# Altium footprint library connectors.PcbLib: 143 footprints (part 8 of 9)
Each footprint in its own frame and in the unit in brackets; x right, y up, seen from the top. Pads: shape width x height; smd on the part's side, far side on the other; paste and mask are expansions set on the pad; w line width, h text height; cw(c..) or ccw(c..) is an arc to the next point about the centre after c.
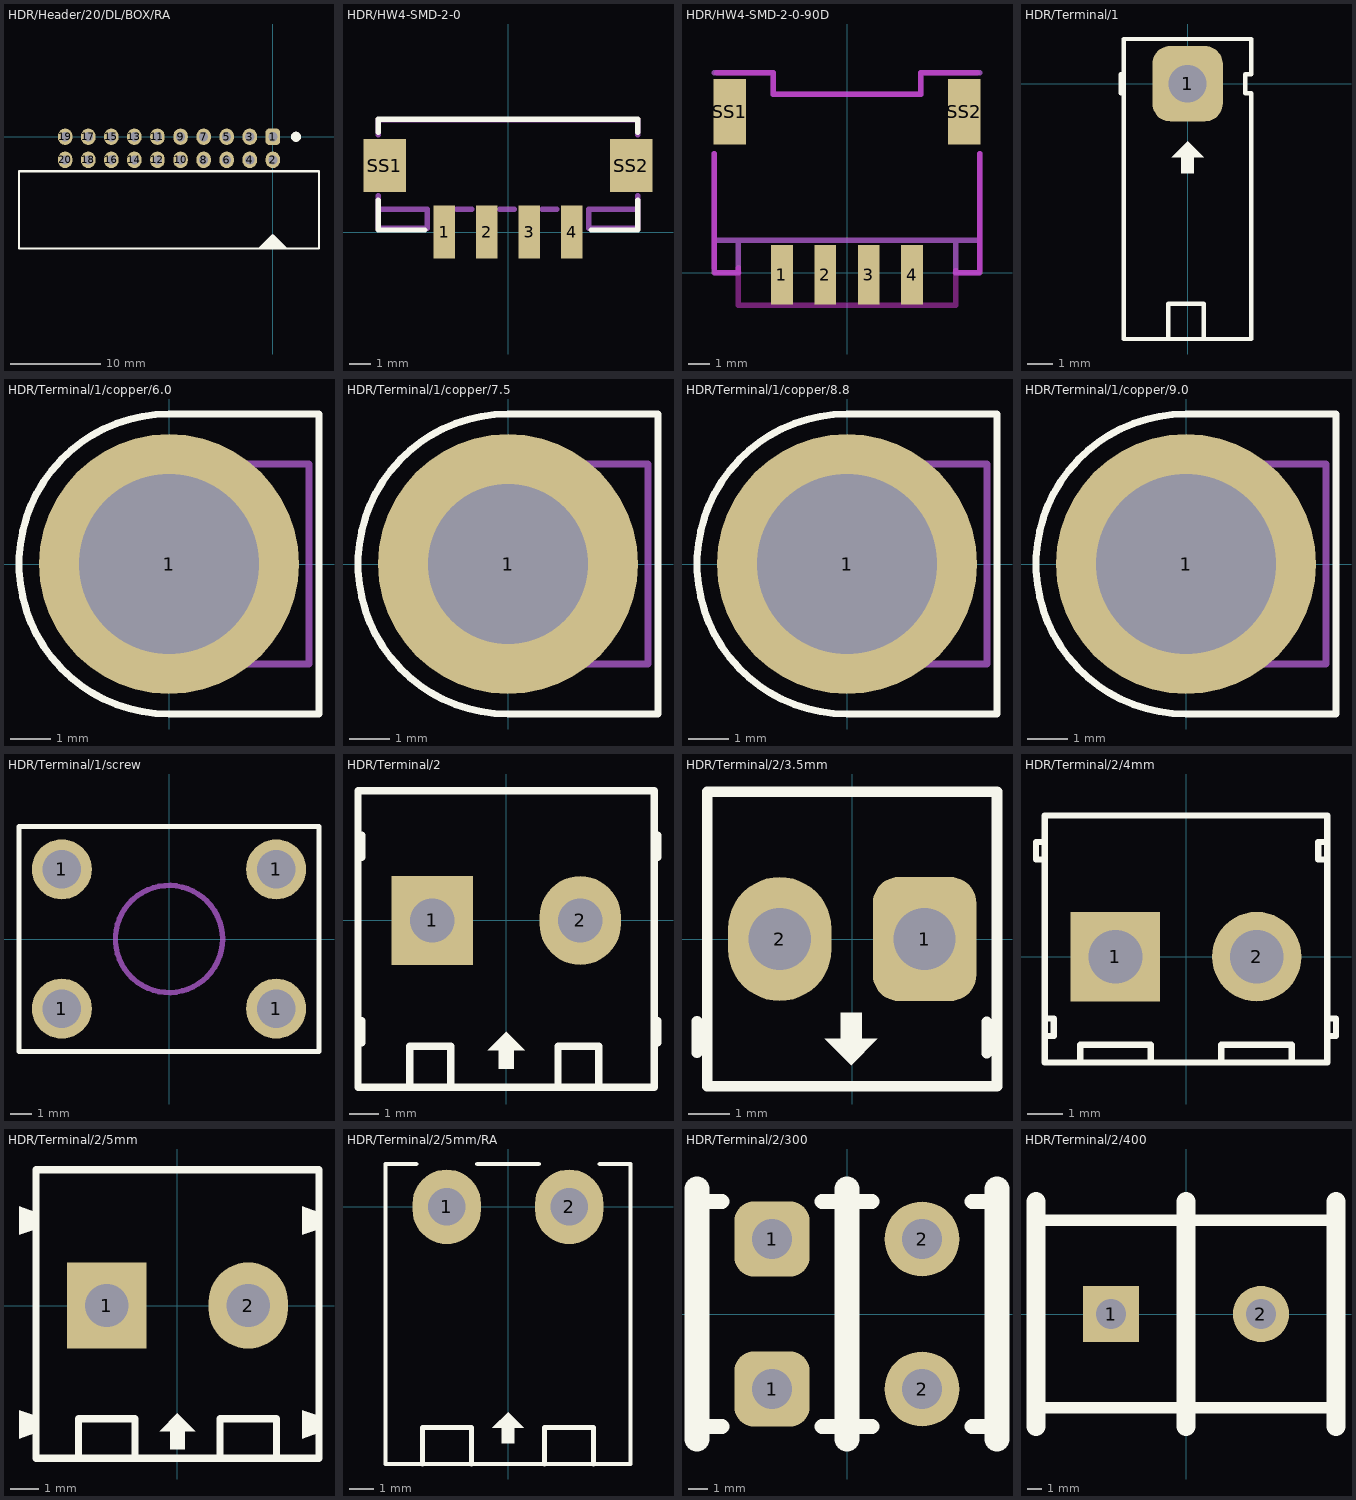
[diagram p7: the footprints below, top view; thin cyan lines are the x and y axes]

## HDR/Header/20/DL/BOX/RA [mm] "20 pins Male Box Header, IDC Socket"
pads (20):
  rrect50% 1.6x1.8 hole 1: 1(0,0)
  oval 1.6x1.8 hole 1: 2(0,-2.54) 3(-2.54,0) 4(-2.54,-2.54) 5(-5.08,0) 6(-5.08,-2.54) 7(-7.62,0) 8(-7.62,-2.54) 9(-10.16,0) 10(-10.16,-2.54) 11(-12.7,0) 12(-12.7,-2.54) 13(-15.24,0) 14(-15.24,-2.54) 15(-17.78,0) 16(-17.78,-2.54) 17(-20.32,0) 18(-20.32,-2.54) 19(-22.86,0) 20(-22.86,-2.54)
Top Overlay:
  circle w0.6: c2.54,0 r0.254
  region: -1.494,-12.356 -1.534,-12.258 -1.494,-12.161 -0.097,-10.764 0,-10.724 0.097,-10.764 1.494,-12.161 1.534,-12.258 1.494,-12.356 1.397,-12.396 -1.397,-12.396
  lines w0.254: -27.94,-12.306 5.08,-12.306 5.08,-3.81 -27.94,-3.81 -27.94,-12.306
3D body "Samtec-TST-110-01-L-D-RA.step": height 9.52, standoff -2.5, extent -27.94,-12.306 5.08,0.33

## HDR/HW4-SMD-2-0 [mm]
pads (6):
  rect 1x2.5 smd: 1(-3,0) 2(-1,0) 3(1,0) 4(3,0)
  rect 2x2.5 smd: SS1(-5.8,3.123) SS2(5.8,3.123)
Top Overlay:
  lines w0.254: -6.1,1.5 -6.1,0.1 -3.9,0.1 ; -6.1,4.7 -6.1,5.3 6.1,5.3 6.1,4.7 ; 3.9,0.1 6.1,0.1 6.1,1.5
Mechanical 7:
  lines w0.254: -6.1,1.719 -6.1,1.073 ; -6.1,4.573 -6.1,5.273 6.1,5.273 6.1,4.573 ; -2.4,1.073 -1.7,1.073 ; -0.4,1.073 0.3,1.073 ; 1.6,1.073 2.3,1.073 ; 6.1,1.719 6.1,1.073 ; -6.1,1.073 -3.8,1.073 -3.8,0.173 -6.1,0.173 -6.1,1.073 ; 6.1,1.073 3.8,1.073 3.8,0.173 6.1,0.173 6.1,1.073
3D body "PHS-4AW.STEP": height 8, standoff 0, extent -6,-1.125 6,5.25

## HDR/HW4-SMD-2-0-90D [mm]
pads (6):
  rect 1.01x2.74 smd: 1(-3,-0.1) 2(-1,-0.1) 3(1,-0.1) 4(3,-0.1)
  rect 1.5x3 smd: SS1(-5.4,7.4) SS2(5.4,7.4)
Top Layer keep-out:
  lines w0.254: -6.1,0.2 -6.1,5.465 ; -6.053,0 -4.975,0 ; -6,9.2 -3.4,9.2 -3.4,8.2 3.4,8.2 3.4,9.2 6,9.2 ; -5,0.2 -5,-1.5 5,-1.5 5,0.1 ; 4.975,0 6.053,0 ; 6.1,0.1 6.1,5.465
Mechanical 7:
  lines w0.254: -6.1,5.465 -6.1,1.5 ; -6.1,9.2 -3.4,9.2 -3.4,8.2 3.4,8.2 3.4,9.2 6.1,9.2 ; 6.1,5.465 6.1,1.5 ; -6.1,1.5 -6.1,0 -5,0 -5,1.5 ; -6.1,1.5 -5,1.5 ; -5,1.5 5,1.5 ; 5,1.5 5,0 6.1,0 6.1,1.5 ; 5,1.5 6.1,1.5

## HDR/Terminal/1 [mm] "Header 1, 1 pin, hight 300mil, Pin to Pin 200, Colour Green"
height 7.62
pads (1):
  rrect50% 2.8x3 hole 1.5: 1(0,0)
Top Overlay:
  region: 0,-2.286 -0.635,-2.921 -0.254,-2.921 -0.254,-3.556 0.254,-3.556 0.254,-2.921 0.635,-2.921
  lines w0.178: -2.667,-0.381 -2.667,0.381 ; -0.762,-10.16 -0.762,-8.763 0.635,-8.763 0.635,-10.16 ; -2.54,-10.16 -2.54,1.778 2.54,1.778 2.54,0.381 2.286,0.381 2.286,-0.381 2.54,-0.381 2.54,-10.16 -2.54,-10.16
3D body "User Library-BigHeader 5EHDR_1P.step": height 8.49, standoff -3.98, extent -2.5,-10.222 2.5,1.778

## HDR/Terminal/1/copper/6.0 [mm] "Header 1, 1 pin,"
height 7.62
pads (1):
  round 6.5 hole 4.5: 1(0,0)
Top Overlay:
  lines w0.178: 0,-3.75 cw(c0,0) 0,3.75 3.75,3.75 3.75,-3.75 0,-3.75
Mechanical 1:
  lines w0.178: 0.49,-2.451 cw(c0,0) 0.49,2.451 ; 0.5,-2.5 3.5,-2.5 3.5,2.5 0.5,2.5
3D body "terminal2.STEP": height 6, standoff -2, extent -2.5,-2.5 3.5,2.5

## HDR/Terminal/1/copper/7.5 [mm] "Header 1, 1 pin,"
height 7.62
pads (1):
  round 6.5 hole 4: 1(0,0)
Top Overlay:
  lines w0.178: 0,-3.75 cw(c0,0) 0,3.75 3.75,3.75 3.75,-3.75 0,-3.75
Mechanical 1:
  lines w0.178: 0.49,-2.451 cw(c0,0) 0.49,2.451 ; 0.5,-2.5 3.5,-2.5 3.5,2.5 0.5,2.5
3D body "terminal4.STEP": height 7.5, standoff -2, extent -2.5,-2.5 6.5,2.5

## HDR/Terminal/1/copper/8.8 [mm] "Header 1, 1 pin,"
height 7.62
pads (1):
  round 6.5 hole 4.5: 1(0,0)
Top Overlay:
  lines w0.178: 0,-3.75 cw(c0,0) 0,3.75 3.75,3.75 3.75,-3.75 0,-3.75
Mechanical 1:
  lines w0.178: 0.49,-2.451 cw(c0,0) 0.49,2.451 ; 0.5,-2.5 3.5,-2.5 3.5,2.5 0.5,2.5
3D body "terminal3.STEP": height 8.8, standoff -2, extent -2.5,-2.5 3.5,2.5

## HDR/Terminal/1/copper/9.0 [mm] "Header 1, 1 pin,"
height 7.62
pads (1):
  round 6.5 hole 4.5: 1(0,0)
Top Overlay:
  lines w0.178: 0,-3.75 cw(c0,0) 0,3.75 3.75,3.75 3.75,-3.75 0,-3.75
Mechanical 1:
  lines w0.178: 0.49,-2.451 cw(c0,0) 0.49,2.451 ; 0.5,-2.5 3.5,-2.5 3.5,2.5 0.5,2.5
3D body "terminal.STEP": height 9, standoff -2, extent -2.5,-2.5 3.5,2.5

## HDR/Terminal/1/screw [mm]
height 7.62
pads (4):
  round 2.8 hole 1.8: 1(-5,-3.25) 1(-5,3.25) 1(5,-3.25) 1(5,3.25)
Top Overlay:
  lines w0.254: -7,-5.25 -7,5.25 7,5.25 7,-5.25 -7,-5.25
Mechanical 1:
  circle w0.254: c0,0 r2.5
3D body: height 1.5, standoff 0, extent -7,-5.25 -6.25,5.25
3D body: height 4, standoff 0, extent -5.5,-5.25 -4.75,5.25
3D body: height 4, standoff 0, extent -3.75,-5.25 -3,5.25
3D body: height 4, standoff 0, extent -5.375,-5.25 -4.625,5.25
3D body: height 4, standoff 0, extent 4.625,-5.25 5.375,5.25
3D body: height 4.75, standoff 4, extent -5.375,-5.25 0,5.25
3D body: height 4.75, standoff 4, extent 0,-5.25 5.375,5.25

## HDR/Terminal/2 [mil] "Header 2, 2 pin, hight 400mil, Pin to Pin 200mil, Colour Green"
height 300
pads (2):
  rect 110x120 hole 60: 1(-100,0)
  oval 110x120 hole 60: 2(100,0)
Top Overlay:
  region: 0,-150 -25,-175 -10,-175 -10,-200 10,-200 10,-175 25,-175
  lines w10: -195,-165 -195,-135 ; -195,85 -195,115 ; -130,-225 -130,-170 -75,-170 -75,-225 ; 70,-225 70,-170 125,-170 125,-225 ; 205,-165 205,-135 ; 205,85 205,115 ; -200,-225 -200,175 200,175 200,-225 -200,-225
3D body "13989.stp": height 559.05, standoff -137.8, extent -229.17,-217.91 200,167.91

## HDR/Terminal/2/3.5mm [mm]
pads (2):
  rrect50% 2.5x3 hole 1.5: 1(1.75,0)
  oval 2.5x3 hole 1.5: 2(-1.75,0)
Top Overlay:
  region: -0.028,-3.048 0.607,-2.413 0.226,-2.413 0.226,-1.778 -0.282,-1.778 -0.282,-2.413 -0.663,-2.413
  lines w0.254: -3.75,-2.75 -3.75,-1.988 ; 3.25,-2.762 3.25,-2 ; -3.5,-3.556 3.5,-3.556 3.5,3.556 -3.5,3.556 -3.5,-3.556
3D body "User Library-Terminal Block 2 way 3.5mm.step": height 8.51, standoff -3.5, extent -3.556,-3.645 3.556,3.645

## HDR/Terminal/2/4mm [mil]
pads (2):
  rect 100x100 hole 60: 1(-78.8,0)
  round 100 hole 60: 2(78.8,0)
Top Overlay:
  lines w7.01: -157.6,-118.11 -157.6,157.48 157.6,157.48 157.6,-118.11 -157.54,-118.11 ; -157.6,-78.8 -157.6,78.8 ; -157.54,-88.58 -147.7,-88.58 -147.7,-68.9 -157.54,-68.9 ; -157.54,108.27 -167.38,108.27 -167.38,127.95 -157.54,127.95 ; -118.17,-118.11 -118.17,-98.43 -39.43,-98.43 -39.43,-118.11 ; 39.31,-118.11 39.31,-98.43 118.05,-98.43 118.05,-118.11 ; 157.42,-88.58 167.26,-88.58 167.26,-68.9 157.42,-68.9 ; 157.42,108.27 147.58,108.27 147.58,127.95 157.42,127.95 ; 157.6,-78.8 157.6,78.8

## HDR/Terminal/2/5mm [mil] "Header 2, 2 pin, hight 400mil, Pin to Pin 200mil, Colour Green"
height 300
pads (2):
  rect 110x120 hole 60: 1(-98.43,0)
  oval 110x120 hole 60: 2(98.43,0)
Top Overlay:
  region: 0,-150 -25,-175 -10,-175 -10,-200 10,-200 10,-175 25,-175
  region: -220.47,98.43 -220.47,137.8 -196.85,129.92 -196.85,106.3
  region: -220.47,-185.04 -220.47,-145.67 -196.85,-153.54 -196.85,-177.17
  region: 173.23,-185.04 173.23,-145.67 196.85,-153.54 196.85,-177.17
  region: 173.23,98.43 173.23,137.8 196.85,129.92 196.85,106.3
  lines w10: -137.8,-212.6 -137.8,-157.48 -59.06,-157.48 -59.06,-212.6 ; 59.06,-212.6 59.06,-157.48 137.8,-157.48 137.8,-212.6 ; -196.85,-212.6 -196.85,188.98 196.85,188.98 196.85,-212.6 -196.85,-212.6
3D body "terminal_blocks_a-tb500-ti02.stp": height 559.07, standoff -137.8, extent -220.47,-214.57 196.85,190.95

## HDR/Terminal/2/5mm/RA [mil] "Header 2, 2 pin, hight 300mil, Pin to Pin 200, Colour Green"
height 300
pads (2):
  oval 110x120 hole 60: 1(-98.43,0) 2(98.43,0)
Top Overlay:
  region: 0,-330 -25,-355 -10,-355 -10,-380 10,-380 10,-355 25,-355
  lines w7: -147.64,68.9 -196.85,68.9 -196.85,-413.39 196.85,-413.39 196.85,68.9 147.64,68.9 ; -49.21,68.9 49.21,68.9
  lines w8: -137.8,-413.39 -137.8,-354.33 -59.06,-354.33 -59.06,-413.39 ; 59.06,-413.39 59.06,-354.33 137.8,-354.33 137.8,-413.39
3D body "User Library-5EHDR_2P.step": height 333.51, standoff -157.48, extent -196.85,-403.54 196.85,68.9

## HDR/Terminal/2/300 [mil]
pads (4):
  rrect50% 150x150 hole 80: 1(-150,-150) 1(-150,150)
  round 150 hole 80: 2(150,-150) 2(150,150)
Top Overlay:
  lines w30: -275,-225 -250,-225 ; -275,225 -250,225 ; -50,-225 -25,-225 ; -50,225 -25,225 ; 25,-225 50,-225 ; 25,225 50,225 ; 250,-225 275,-225 ; 250,225 275,225
  lines w50: -300,-250 -300,250 ; 0,-250 0,250 ; 300,-250 300,250
3D body: height 250, standoff 0, extent -300,-225 300,225
3D body: height 500, standoff 0, extent -300,-250 -275,250
3D body: height 500, standoff 0, extent -25,-250 25,250
3D body: height 500, standoff 0, extent 275,-250 300,250
3D body: height 300, standoff 250, extent -265,-135 -35,135
3D body: height 300, standoff 250, extent 35,-135 265,135
3D body: height 380, standoff 300, extent -249.21,-99.8 -50,99.8
3D body: height 380, standoff 300, extent 50.79,-99.8 250,99.8

## HDR/Terminal/2/400 [mil]
pads (2):
  rect 150x150 hole 80: 1(-200,0)
  round 150 hole 80: 2(200,0)
Top Overlay:
  lines w30: -400,-250 400,-250 ; -400,250 400,250
  lines w50: -400,-300 -400,300 ; 0,-300 0,300 ; 400,-300 400,300
3D body "User Library-Terminal_Block.step": height 714.05, standoff -211.15, extent -433.07,-305.12 433.07,305.12